# Altium schematic symbol library SevenSegInterface.SchLib: 1 symbol
Pins are listed as number, name and electrical type; pins without a type are passive.

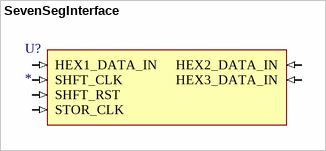
[diagram p0: symbol SevenSegInterface]

## SevenSegInterface
designator U?
pins: HEX1_DATA_IN (in), HEX2_DATA_IN (in), HEX3_DATA_IN (in), SHFT_CLK (in), SHFT_RST (in), STOR_CLK (in)